# Altium footprint library eecs5x.PcbLib: 161 footprints (part 3 of 11)
Each footprint in its own frame and in the unit in brackets; x right, y up, seen from the top. Pads: shape width x height; smd on the part's side, far side on the other; paste and mask are expansions set on the pad; w line width, h text height; cw(c..) or ccw(c..) is an arc to the next point about the centre after c.
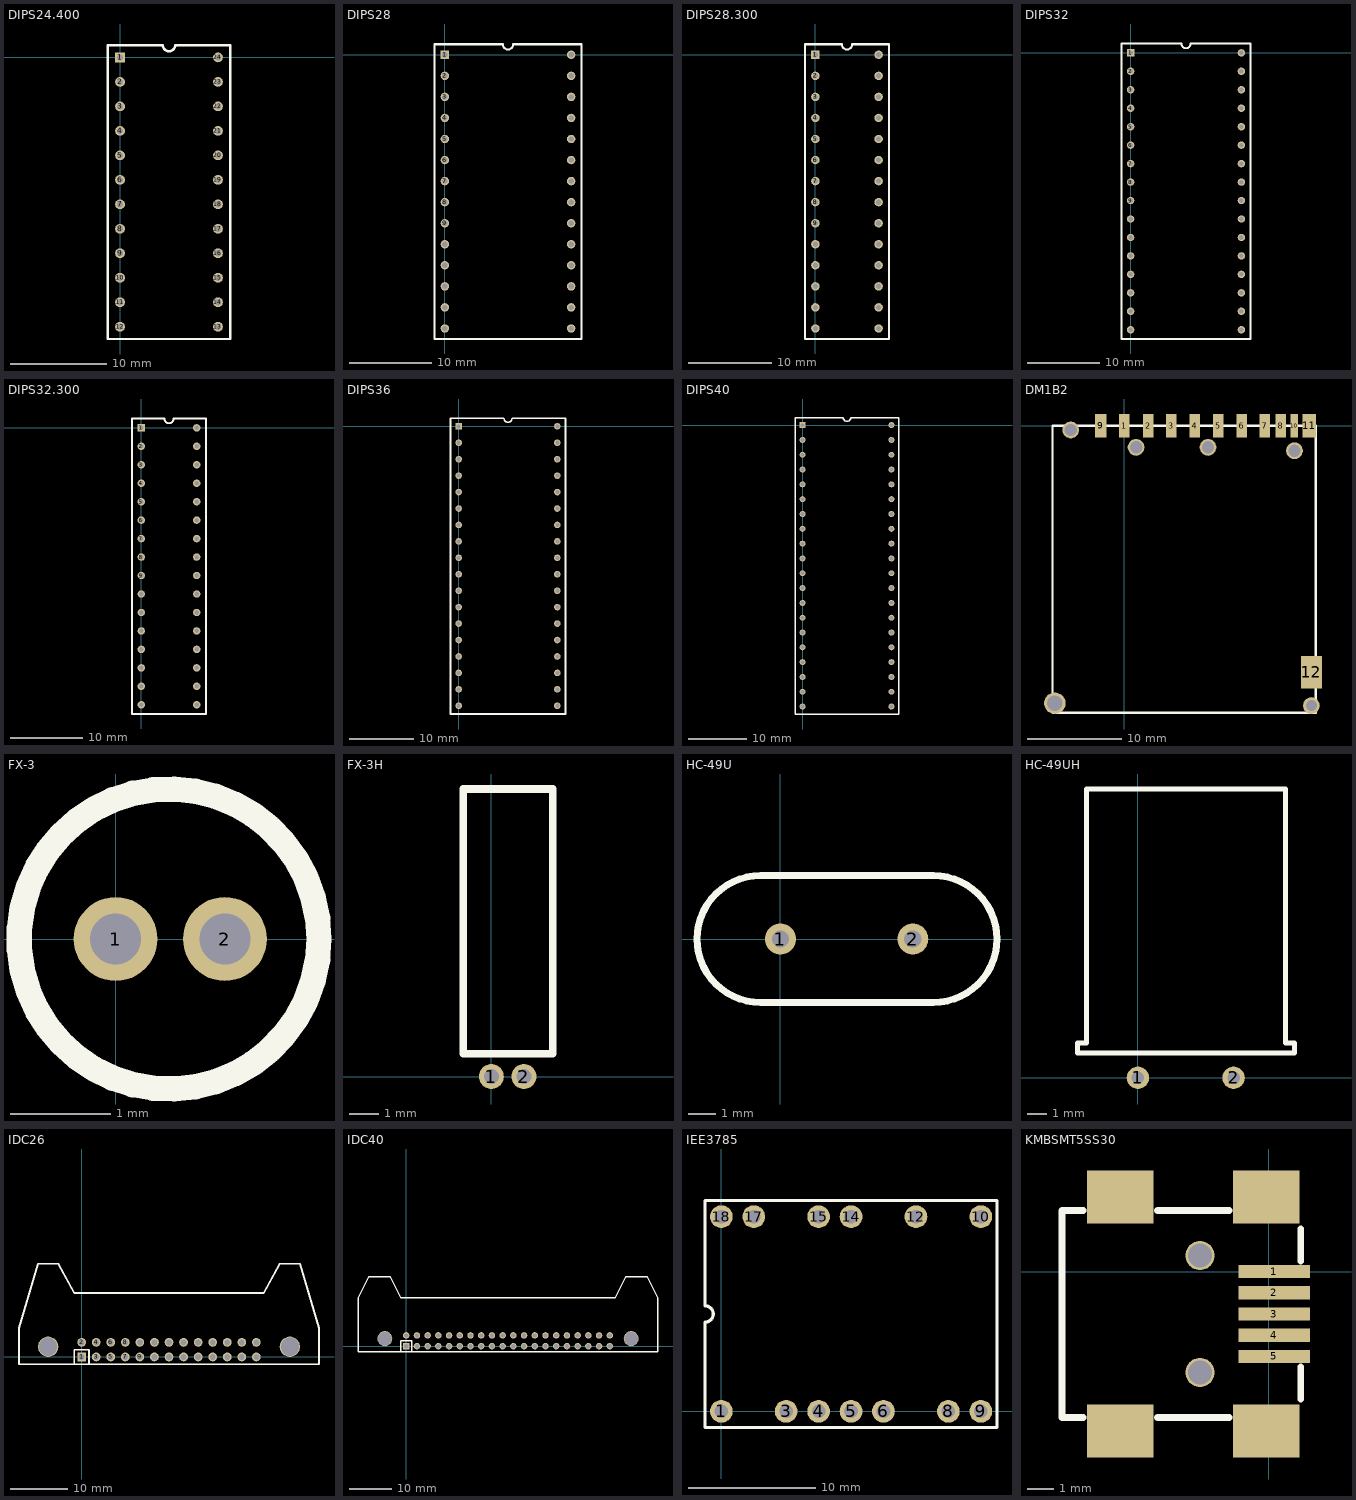
[diagram p2: the footprints below, top view; thin cyan lines are the x and y axes]

## DIPS24.400 [mil]
pads (24):
  rect 40x40 hole 25: 1(0,0)
  round 40 hole 25: 2(0,-100) 3(0,-200) 4(0,-300) 5(0,-400) 6(0,-500) 7(0,-600) 8(0,-700) 9(0,-800) 10(0,-900) 11(0,-1000) 12(0,-1100) 13(400,-1100) 14(400,-1000) 15(400,-900) 16(400,-800) 17(400,-700) 18(400,-600) 19(400,-500) 20(400,-400) 21(400,-300) 22(400,-200) 23(400,-100) 24(400,0)
Top Overlay:
  lines w10: -50,-1150 -50,50 175,50 ccw(c200,50) 225,50 450,50 450,-1150 -50,-1150

## DIPS28 [mil]
pads (28):
  rect 40x40 hole 25: 1(0,0)
  round 40 hole 25: 2(0,-100) 3(0,-200) 4(0,-300) 5(0,-400) 6(0,-500) 7(0,-600) 8(0,-700) 9(0,-800) 10(0,-900) 11(0,-1000) 12(0,-1100) 13(0,-1200) 14(0,-1300) 15(600,-1300) 16(600,-1200) 17(600,-1100) 18(600,-1000) 19(600,-900) 20(600,-800) 21(600,-700) 22(600,-600) 23(600,-500) 24(600,-400) 25(600,-300) 26(600,-200) 27(600,-100) 28(600,0)
Top Overlay:
  lines w10: -50,-1350 -50,50 275,50 ccw(c300,50) 325,50 650,50 650,-1350 -50,-1350

## DIPS28.300 [mil]
pads (28):
  rect 40x40 hole 25: 1(0,0)
  round 40 hole 25: 2(0,-100) 3(0,-200) 4(0,-300) 5(0,-400) 6(0,-500) 7(0,-600) 8(0,-700) 9(0,-800) 10(0,-900) 11(0,-1000) 12(0,-1100) 13(0,-1200) 14(0,-1300) 15(300,-1300) 16(300,-1200) 17(300,-1100) 18(300,-1000) 19(300,-900) 20(300,-800) 21(300,-700) 22(300,-600) 23(300,-500) 24(300,-400) 25(300,-300) 26(300,-200) 27(300,-100) 28(300,0)
Top Overlay:
  lines w10: -50,-1350 -50,50 125,50 ccw(c150,50) 175,50 350,50 350,-1350 -50,-1350

## DIPS32 [mil]
pads (32):
  rect 40x40 hole 25: 1(0,0)
  round 40 hole 25: 2(0,-100) 3(0,-200) 4(0,-300) 5(0,-400) 6(0,-500) 7(0,-600) 8(0,-700) 9(0,-800) 10(0,-900) 11(0,-1000) 12(0,-1100) 13(0,-1200) 14(0,-1300) 15(0,-1400) 16(0,-1500) 17(600,-1500) 18(600,-1400) 19(600,-1300) 20(600,-1200) 21(600,-1100) 22(600,-1000) 23(600,-900) 24(600,-800) 25(600,-700) 26(600,-600) 27(600,-500) 28(600,-400) 29(600,-300) 30(600,-200) 31(600,-100) 32(600,0)
Top Overlay:
  lines w10: -50,-1550 -50,50 275,50 ccw(c300,50) 325,50 650,50 650,-1550 -50,-1550

## DIPS32.300 [mil]
pads (32):
  rect 40x40 hole 25: 1(0,0)
  round 40 hole 25: 2(0,-100) 3(0,-200) 4(0,-300) 5(0,-400) 6(0,-500) 7(0,-600) 8(0,-700) 9(0,-800) 10(0,-900) 11(0,-1000) 12(0,-1100) 13(0,-1200) 14(0,-1300) 15(0,-1400) 16(0,-1500) 17(300,-1500) 18(300,-1400) 19(300,-1300) 20(300,-1200) 21(300,-1100) 22(300,-1000) 23(300,-900) 24(300,-800) 25(300,-700) 26(300,-600) 27(300,-500) 28(300,-400) 29(300,-300) 30(300,-200) 31(300,-100) 32(300,0)
Top Overlay:
  lines w10: -50,-1550 -50,50 125,50 ccw(c150,50) 175,50 350,50 350,-1550 -50,-1550

## DIPS36 [mil]
pads (36):
  rect 40x40 hole 25: 1(0,0)
  round 40 hole 25: 2(0,-100) 3(0,-200) 4(0,-300) 5(0,-400) 6(0,-500) 7(0,-600) 8(0,-700) 9(0,-800) 10(0,-900) 11(0,-1000) 12(0,-1100) 13(0,-1200) 14(0,-1300) 15(0,-1400) 16(0,-1500) 17(0,-1600) 18(0,-1700) 19(600,-1700) 20(600,-1600) 21(600,-1500) 22(600,-1400) 23(600,-1300) 24(600,-1200) 25(600,-1100) 26(600,-1000) 27(600,-900) 28(600,-800) 29(600,-700) 30(600,-600) 31(600,-500) 32(600,-400) 33(600,-300) 34(600,-200) 35(600,-100) 36(600,0)
Top Overlay:
  lines w10: -50,-1750 -50,50 275,50 ccw(c300,50) 325,50 650,50 650,-1750 -50,-1750

## DIPS40 [mil]
pads (40):
  rect 40x40 hole 25: 1(0,0)
  round 40 hole 25: 2(0,-100) 3(0,-200) 4(0,-300) 5(0,-400) 6(0,-500) 7(0,-600) 8(0,-700) 9(0,-800) 10(0,-900) 11(0,-1000) 12(0,-1100) 13(0,-1200) 14(0,-1300) 15(0,-1400) 16(0,-1500) 17(0,-1600) 18(0,-1700) 19(0,-1800) 20(0,-1900) 21(600,-1900) 22(600,-1800) 23(600,-1700) 24(600,-1600) 25(600,-1500) 26(600,-1400) 27(600,-1300) 28(600,-1200) 29(600,-1100) 30(600,-1000) 31(600,-900) 32(600,-800) 33(600,-700) 34(600,-600) 35(600,-500) 36(600,-400) 37(600,-300) 38(600,-200) 39(600,-100) 40(600,0)
Top Overlay:
  lines w10: -50,-1950 -50,50 275,50 ccw(c300,50) 325,50 650,50 650,-1950 -50,-1950

## DM1B2 [mm]
pads (18):
  rect 1.1x2.5 smd: 1(0,0) 2(2.55,0) 3(5,0) 4(7.5,0) 5(10,0) 6(12.5,0) 7(14.925,0) 8(16.625,0)
  rect 1.25x2.5 smd: 9(-2.5,0)
  rect 0.8x2.5 smd: 10(18.075,0)
  rect 1.4x2.5 smd: 11(19.675,0)
  rect 2.2x3.5 smd: 12(19.9,-26.204)
  round 2.286 hole 1.651: ""(-7.375,-29.5)
  round 1.778 hole 1.321: ""(-5.7,-0.45) ""(1.255,-2.3) ""(8.905,-2.3) ""(18.1,-2.65)
  round 1.778 hole 1.143: ""(19.9,-29.75)
Top Overlay:
  lines w0.254: -7.625,-30.5 -7.625,0 20.375,0 20.375,-30.5 -7.625,-30.5

## FX-3 [mil]
pads (2):
  round 33 hole 20: 1(0,0) 2(43,0)
Top Overlay:
  circle w10: c21,0 r59

## FX-3H [mil]
pads (2):
  round 33 hole 20: 1(0,0) 2(43,0)
Top Overlay:
  lines w10: -37,30 -37,380 81,380 81,30 -37,30

## HC-49U [mil]
pads (2):
  round 45 hole 25: 1(0,0) 2(192,0)
Top Overlay:
  lines w10: -29,-92 cw(c-29,0) -29,92 222,92 cw(c222,0) 222,-92 -29,-92

## HC-49UH [mil]
pads (2):
  round 45 hole 25: 1(0,0) 2(192,0)
Top Overlay:
  lines w10: -121,50 -121,70 -103,70 -103,580 296,580 296,70 314,70 314,50 -121,50

## IDC26 [mil]
pads (28):
  rect 60x60 hole 40: 1(0,0)
  round 60 hole 40: 2(0,100) 3(100,0) 4(100,100) 5(200,0) 6(200,100) 7(300,0) 8(300,100) 9(400,0) 10(400,100) 11(500,0) 12(500,100) 13(600,0) 14(600,100) 15(700,0) 16(700,100) 17(800,0) 18(800,100) 19(900,0) 20(900,100) 21(1000,0) 22(1000,100) 23(1100,0) 24(1100,100) 25(1200,0) 26(1200,100)
  round 140 hole 125: ""(-230,70) ""(1430,70)
Top Overlay:
  lines w12: -50,-50 -50,50 50,50 50,-50 ; -430,-50 -430,200 -300,640 -160,640 -50,440 1250,440 1360,640 1500,640 1630,200 1630,-50 -430,-50

## IDC40 [mil]
pads (42):
  rect 60x60 hole 40: 1(0,0)
  round 60 hole 40: 2(0,100) 3(100,0) 4(100,100) 5(200,0) 6(200,100) 7(300,0) 8(300,100) 9(400,0) 10(400,100) 11(500,0) 12(500,100) 13(600,0) 14(600,100) 15(700,0) 16(700,100) 17(800,0) 18(800,100) 19(900,0) 20(900,100) 21(1000,0) 22(1000,100) 23(1100,0) 24(1100,100) 25(1200,0) 26(1200,100) 27(1300,0) 28(1300,100) 29(1400,0) 30(1400,100) 31(1500,0) 32(1500,100) 33(1600,0) 34(1600,100) 35(1700,0) 36(1700,100) 37(1800,0) 38(1800,100) 39(1900,0) 40(1900,100)
  round 140 hole 125: ""(-200,70) ""(2100,70)
Top Overlay:
  lines w12: -50,-50 -50,50 50,50 50,-50 ; -450,-50 -450,450 -350,650 -150,650 -50,450 1950,450 2050,650 2250,650 2350,450 2350,-50 -450,-50

## IEE3785 [mil]
pads (13):
  round 70 hole 42: 1(0,0) 3(200,0) 4(300,0) 5(400,0) 6(500,0) 8(700,0) 9(800,0) 10(800,600) 12(600,600) 14(400,600) 15(300,600) 17(100,600) 18(0,600)
Top Overlay:
  lines w10: -50,-50 -50,275 ccw(c-50,300) -50,325 -50,650 850,650 850,-50 -50,-50

## KMBSMT5SS30 [mm]
pads (11):
  rect 2.7x0.5 smd: 1(0.2,0) 2(0.2,-0.8) 3(0.2,-1.6) 4(0.2,-2.4) 5(0.2,-3.2)
  rect 2.5x2 smd: ""(-5.6,-6) ""(-5.6,2.8) ""(-0.1,-6) ""(-0.1,2.8)
  round 1.1 hole 0.9: ""(-2.6,-3.8) ""(-2.6,0.6)
Top Overlay:
  lines w0.254: -7,-5.5 -7.8,-5.5 -7.8,2.3 -7,2.3 ; -4.2,-5.5 -1.5,-5.5 ; -4.2,2.3 -1.5,2.3 ; 1.2,-4.8 1.2,-3.6 ; 1.2,0.4 1.2,1.6